# Altium footprint library AltiumLibraries.PcbLib: 84 footprints (part 2 of 6)
Each footprint in its own frame and in the unit in brackets; x right, y up, seen from the top. Pads: shape width x height; smd on the part's side, far side on the other; paste and mask are expansions set on the pad; w line width, h text height; cw(c..) or ccw(c..) is an arc to the next point about the centre after c.
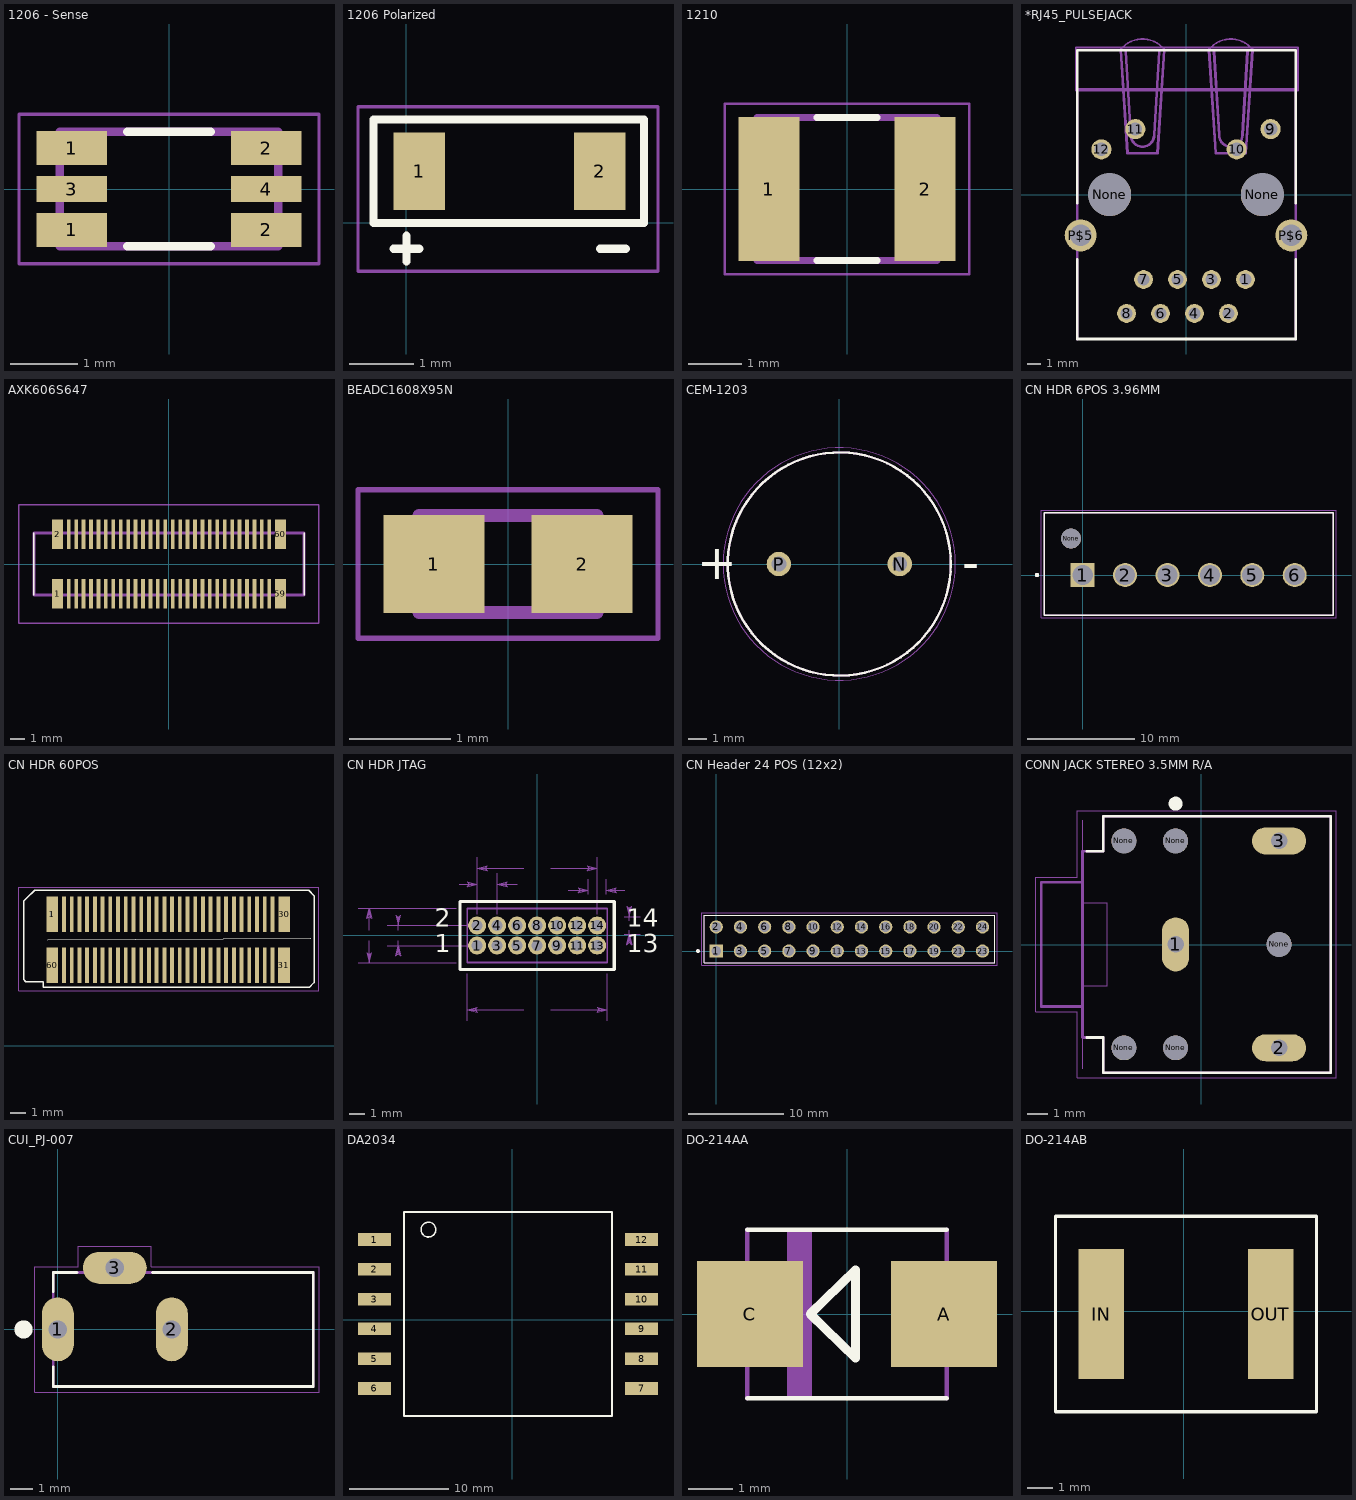
[diagram p1: the footprints below, top view; thin cyan lines are the x and y axes]

## 1206 - Sense [mil] "4-Wire Sense Footprint"
pads (6):
  rect 41.34x20 smd: 1(-57,-24) 1(-57,24) 2(57,-24) 2(57,24)
  rect 41.34x15 smd paste+0: 3(-57,0) 4(57,0)
Top Overlay:
  lines w5: -24.41,-33.46 24.41,-33.46 ; -24.41,33.46 24.41,33.46
Mechanical 4:
  lines w5: -64.17,-33.46 -64.17,33.46 ; -64.17,-33.46 64.17,-33.46 ; -64.17,-33.46 -64.17,33.46 ; -64.17,-33.46 64.17,-33.46 ; -64.17,33.46 64.17,33.46 ; -64.17,33.46 64.17,33.46 ; 64.17,-33.46 64.17,33.46 ; 64.17,-33.46 64.17,33.46
Mechanical 15:
  lines w1.97: -87.99,-43.78 87.99,-43.78 87.99,43.78 -87.99,43.78 -87.99,-43.78

## 1206 Polarized [mm]
pads (2):
  rect 0.8x1.2 smd: 1(0.2,0.8) 2(3,0.8)
Top Overlay:
  lines w0.127: -0.2,-0.4 0.2,-0.4 ; 0,-0.6 0,-0.2 ; 3,-0.4 3.4,-0.4 ; -0.508,0 -0.508,1.6 3.683,1.6 3.683,0 -0.508,0
Mechanical 15:
  lines w0.05: -0.75,-0.75 3.9,-0.75 3.9,1.8 -0.75,1.8 -0.75,1.5 -0.75,-0.75

## 1210 [mm]
pads (2):
  rect 1.16x2.72 smd: 1(-1.475,0) 2(1.475,0)
Top Overlay:
  lines w0.127: -0.57,-1.35 0.57,-1.35 ; -0.57,1.35 0.57,1.35
Mechanical 4:
  lines w0.127: -1.7,-1.35 1.7,-1.35 ; -1.7,-1.35 -1.7,1.35 ; -1.7,-1.35 1.7,-1.35 ; -1.7,-1.35 -1.7,1.35 ; -1.7,1.35 1.7,1.35 ; -1.7,1.35 1.7,1.35 ; 1.7,-1.35 1.7,1.35 ; 1.7,-1.35 1.7,1.35
Mechanical 15:
  lines w0.05: -2.308,-1.608 -2.308,1.608 2.308,1.608 2.308,-1.608 -2.308,-1.608

## *RJ45_PULSEJACK [mm]
pads (16):
  round 1.408 hole 0.9: 1(4.445,-6.35) 2(3.175,-8.89) 3(1.905,-6.35) 4(0.635,-8.89) 5(-0.635,-6.35) 6(-1.905,-8.89) 7(-3.175,-6.35) 8(-4.445,-8.89)
  round 1.508 hole 1: 9(6.325,4.9) 10(3.785,3.38) 11(-3.785,4.9) 12(-6.325,3.38)
  round 3.2 hole 3.2 unplated: None(-5.715,0) None(5.715,0)
  round 2.4 hole 1.6: P$5(-7.875,-3.05) P$6(7.875,-3.05)
Top Overlay:
  lines w0.203: -8.13,-4.83 -8.13,-10.8 8.2,-10.8 8.2,-4.83 ; -8.13,-0.64 -8.13,7.87 -8.13,10.79 8.2,10.79 8.2,7.87 8.2,-0.64
Mechanical 4:
  lines w0.127: -8.13,10.79 -8.13,7.87 -8.13,10.79 ; -8.13,10.79 8.2,10.79 ; -8.13,10.79 8.2,10.79 ; 8.2,10.79 8.2,7.87 8.2,10.79 ; -8.13,-10.8 8.2,-10.8 -8.13,-10.8 ; -4.869,10.846 cw(c-3.253,9.584) -1.637,10.846 ccw(c-3.253,9.584) -4.869,10.846 ; 1.735,10.846 cw(c3.351,9.584) 4.967,10.846 ccw(c3.351,9.584) 1.735,10.846
  lines w0.203: -8.13,7.87 -8.13,-10.8 -8.13,7.87 ; -8.13,7.87 8.2,7.87 ; -8.13,7.87 8.2,7.87 ; -4.378,3.084 -4.878,10.834 -4.378,3.084 ; -4.378,3.084 -2.128,3.084 ; -4.378,3.084 -2.128,3.084 ; -4.128,4.459 ccw(c-3.253,4.459) -2.378,4.459 ; -4.128,4.459 ccw(c-3.253,4.459) -2.378,4.459 ; -4.128,4.459 -4.503,10.709 -4.128,4.459 ; -2.378,4.459 -2.003,10.709 -2.378,4.459 ; -2.128,3.084 -1.628,10.834 -2.128,3.084 ; 2.226,3.084 1.726,10.834 2.226,3.084 ; 2.226,3.084 4.476,3.084 ; 2.226,3.084 4.476,3.084 ; 2.476,4.459 ccw(c3.351,4.459) 4.226,4.459 ; 2.476,4.459 ccw(c3.351,4.459) 4.226,4.459 ; 2.476,4.459 2.101,10.709 2.476,4.459 ; 4.226,4.459 4.601,10.709 4.226,4.459 ; 4.476,3.084 4.976,10.834 4.476,3.084 ; 8.2,7.87 8.2,-10.8 8.2,7.87
  text "NO TRACE ZONE" at -5.842,8.64 h1.88
  text "NO TRACE ZONE" at -5.842,8.64 h1.88
Mechanical 16:
  lines w0.127: -8.246,7.754 8.382,7.754 8.382,11 -8.246,11 -8.246,7.754

## AXK606S647 [mm] "RS14100_WIFI_CONN"
pads (60):
  rect 0.75x2 smd: 1(-7.5,-2) 2(-7.5,2) 59(7.5,-2) 60(7.5,2)
  rect 0.25x2 smd: 3(-6.75,-2) 4(-6.75,2) 5(-6.25,-2) 6(-6.25,2) 7(-5.75,-2) 8(-5.75,2) 9(-5.25,-2) 10(-5.25,2) 11(-4.75,-2) 12(-4.75,2) 13(-4.25,-2) 14(-4.25,2) 15(-3.75,-2) 16(-3.75,2) 17(-3.25,-2) 18(-3.25,2) 19(-2.75,-2) 20(-2.75,2) 21(-2.25,-2) 22(-2.25,2) 23(-1.75,-2) 24(-1.75,2) 25(-1.25,-2) 26(-1.25,2) 27(-0.75,-2) 28(-0.75,2) 29(-0.25,-2) 30(-0.25,2) 31(0.25,-2) 32(0.25,2) 33(0.75,-2) 34(0.75,2) 35(1.25,-2) 36(1.25,2) 37(1.75,-2) 38(1.75,2) 39(2.25,-2) 40(2.25,2) 41(2.75,-2) 42(2.75,2) 43(3.25,-2) 44(3.25,2) 45(3.75,-2) 46(3.75,2) 47(4.25,-2) 48(4.25,2) 49(4.75,-2) 50(4.75,2) 51(5.25,-2) 52(5.25,2) 53(5.75,-2) 54(5.75,2) 55(6.25,-2) 56(6.25,2) 57(6.75,-2) 58(6.75,2)
Top Overlay:
  lines w0.1: -9.1,-2.1 -9.1,2.1 ; 9.1,-2.1 9.1,2.1
Mechanical 13:
  lines w0.2: -9.1,-2.1 -9.1,2.1 9.1,2.1 9.1,-2.1 -9.1,-2.1
Mechanical 15:
  lines w0.1: -10.1,-4 -10.1,4 10.1,4 10.1,-4 -10.1,-4
3D body "AXK6S60647YG.stp": height 5.6, standoff 0, extent -9.1,-2.975 9.1,2.975

## BEADC1608X95N [mm]
pads (2):
  rect 1x0.97 smd: 1(-0.735,0) 2(0.735,0)
Mechanical 13:
  lines w0.127: -0.88,-0.48 0.88,-0.48 0.88,0.48 -0.88,0.48 -0.88,-0.48
Mechanical 15:
  lines w0.05: -1.485,-0.735 1.485,-0.735 1.485,0.735 -1.485,0.735 -1.485,-0.735

## CEM-1203 [mm] "2048 Hz Speaker"
pads (2):
  round 1.308 hole 0.8: N(3.25,0) P(-3.25,0)
Top Overlay:
  circle w0.127: c0,0 r6
  text "+" at -7.655,-0.821 h1.88
  text "-" at 6.608,-0.821 h1.88
Mechanical 13:
  circle w0.127: c0,0 r6
  circle w0.127: c0,0 r6
Mechanical 16:
  circle w0.05: c0,0 r6.25
3D body: height 0.25, standoff 0, extent 0,0 0,0
3D body "CEM-1203_42_WR.stp": height 9.1, standoff -5, extent -6.25,-6.251 6.25,6.249

## CN HDR 6POS 3.96MM [mm]
pads (7):
  rect 2.24x2.24 hole 1.89: 1(0,0)
  round 2.24 hole 1.89: 2(3.96,0) 3(7.92,0) 4(11.88,0) 5(15.84,0) 6(19.8,0)
  round 1.86 hole 1.86 unplated: None(-1.08,3.4)
Top Overlay:
  circle w0.2: c-4.255,0 r0.1
  lines w0.127: -3.605,-3.76 -3.605,5.82 23.405,5.82 23.405,-3.76 -3.605,-3.76
Mechanical 4:
  circle w0.2: c-4.255,0 r0.1
  circle w0.2: c-4.255,0 r0.1
  lines w0.127: -3.605,-3.76 -3.605,5.82 ; -3.605,-3.76 23.405,-3.76 ; -3.605,-3.76 -3.605,5.82 ; -3.605,-3.76 -3.605,5.82 ; -3.605,-3.76 23.405,-3.76 ; -3.605,-3.76 -3.605,5.82 ; -3.605,5.82 23.405,5.82 ; -3.605,5.82 23.405,5.82 ; -3.605,5.82 23.405,5.82 ; -3.605,5.82 23.405,5.82 ; 23.405,-3.76 23.405,5.82 ; 23.405,-3.76 23.405,5.82 ; 23.405,-3.76 23.405,5.82 ; 23.405,-3.76 23.405,5.82
Mechanical 15:
  lines w0.05: -3.855,-4.01 -3.855,6.07 23.655,6.07 23.655,-4.01 -3.855,-4.01

## CN HDR 60POS [mm] "60 Position Connector Header, Outer Shroud Contacts Surface Mount Gold"
pads (60):
  rect 0.75x2.3 smd: 1(-548,8.51) 30(-532.98,8.51) 31(-533,5.21) 60(-548,5.21)
  rect 0.25x2.3 smd: 2(-547.25,8.51) 3(-546.75,8.51) 4(-546.25,8.51) 5(-545.75,8.51) 6(-545.25,8.51) 7(-544.75,8.51) 8(-544.25,8.51) 9(-543.75,8.51) 10(-543.25,8.51) 11(-542.75,8.51) 12(-542.25,8.51) 13(-541.75,8.51) 14(-541.25,8.51) 15(-540.75,8.51) 16(-540.25,8.51) 17(-539.75,8.51) 18(-539.25,8.51) 19(-538.75,8.51) 20(-538.25,8.51) 21(-537.75,8.51) 22(-537.25,8.51) 23(-536.75,8.51) 24(-536.25,8.51) 25(-535.75,8.51) 26(-535.25,8.51) 27(-534.75,8.51) 28(-534.25,8.51) 29(-533.75,8.51) 32(-533.75,5.21) 33(-534.25,5.21) 34(-534.75,5.21) 35(-535.25,5.21) 36(-535.75,5.21) 37(-536.25,5.21) 38(-536.75,5.21) 39(-537.25,5.21) 40(-537.75,5.21) 41(-538.25,5.21) 42(-538.75,5.21) 43(-539.25,5.21) 44(-539.75,5.21) 45(-540.25,5.21) 46(-540.75,5.21) 47(-541.25,5.21) 48(-541.75,5.21) 49(-542.25,5.21) 50(-542.75,5.21) 51(-543.25,5.21) 52(-543.75,5.21) 53(-544.25,5.21) 54(-544.75,5.21) 55(-545.25,5.21) 56(-545.75,5.21) 57(-546.25,5.21) 58(-546.75,5.21) 59(-547.25,5.21)
Top Overlay:
  lines w0.05: -548.31,6.86 -531.28,6.97
  lines w0.1: -549.87,4.31 -549.87,9.36 -549.67,9.56 -549.15,10.08 -548.26,10.08 -532.12,10.08 -531.4,10.08 -531.05,9.73 -531.05,9.67 -531.05,4.1 -531.35,3.8 -532.25,3.8 -548.59,3.8 -548.59,4.16 -549.72,4.16 -549.87,4.31
Mechanical 15:
  lines w0.051: -550.164,3.556 -530.733,3.556 -530.733,10.287 -550.164,10.287 -550.164,9.271 -550.164,3.556
3D body: height 0.25, standoff 0, extent -549.58,4.525 -531.44,9.415

## CN HDR JTAG [mil] "CONN HEADER VERT 14POS 1.27MM"
pads (14):
  round 45 hole 27.95: 1(-150,-25.39) 2(-150,24.61) 3(-100,-25.39) 4(-100,24.61) 5(-50,-25.39) 6(-50,24.61) 7(0,-25.39) 8(0,24.61) 9(50,-25.39) 10(50,24.61) 11(100,-25.39) 12(100,24.61) 13(150,-25.39) 14(150,24.61)
Top Overlay:
  lines w7.87: -192.72,-85.63 -192.72,84.85 192.72,84.85 192.72,-85.63 -192.72,-85.63
  text "1" at -256.02,-57.4 h77.5
  text "2" at -256.02,6.62 h77.5
  text "13" at 224.53,-57.4 h77.5
  text "14" at 224.53,6.62 h77.5
Top Solder:
  circle w0: c-150,-25.39 r24.51
  circle w0: c-150,24.61 r24.51
  circle w0: c-100,-25.39 r24.51
  circle w0: c-100,24.61 r24.51
  circle w0: c-50,-25.39 r24.51
  circle w0: c-50,24.61 r24.51
  circle w0: c0,-25.39 r24.51
  circle w0: c0,24.61 r24.51
  circle w0: c50,-25.39 r24.51
  circle w0: c50,24.61 r24.51
  circle w0: c100,-25.39 r24.51
  circle w0: c100,24.61 r24.51
  circle w0: c150,-25.39 r24.51
  circle w0: c150,24.61 r24.51
Bottom Solder:
  circle w0: c-150,-25.39 r24.51
  circle w0: c-150,24.61 r24.51
  circle w0: c-100,-25.39 r24.51
  circle w0: c-100,24.61 r24.51
  circle w0: c-50,-25.39 r24.51
  circle w0: c-50,24.61 r24.51
  circle w0: c0,-25.39 r24.51
  circle w0: c0,24.61 r24.51
  circle w0: c50,-25.39 r24.51
  circle w0: c50,24.61 r24.51
  circle w0: c100,-25.39 r24.51
  circle w0: c100,24.61 r24.51
  circle w0: c150,-25.39 r24.51
  circle w0: c150,24.61 r24.51
Mechanical 15:
  lines w3.94: -175,-67.87 -125,-67.87 ; -175,-67.87 -125,-67.87 ; -175,-67.87 -175,67.09 -125,67.09 -75,67.09 -25,67.09 25,67.09 75,67.09 125,67.09 175,67.09 175,-67.87 125,-67.87 ; -125,-67.87 -75,-67.87 ; -125,-67.87 -75,-67.87 ; -75,-67.87 -25,-67.87 ; -75,-67.87 -25,-67.87 ; -25,-67.87 25,-67.87 ; -25,-67.87 25,-67.87 ; 25,-67.87 75,-67.87 ; 25,-67.87 75,-67.87 ; 75,-67.87 125,-67.87 ; 75,-67.87 125,-67.87
Mechanical 16:
  lines w3.94: -175,67.09 -125,67.09 -75,67.09 -25,67.09 25,67.09 75,67.09 125,67.09 ; -157.99,-33.38 -157.99,-17.4 ; -157.99,-33.38 -142.01,-33.38 ; -157.99,-33.38 -142.01,-33.38 ; -157.99,-33.38 -157.99,-17.4 ; -157.99,-17.4 -142.01,-17.4 ; -157.99,-17.4 -142.01,-17.4 ; -157.99,16.62 -157.99,32.6 ; -157.99,16.62 -142.01,16.62 ; -157.99,16.62 -142.01,16.62 ; -157.99,16.62 -157.99,32.6 ; -157.99,32.6 -142.01,32.6 ; -157.99,32.6 -142.01,32.6 ; -142.01,-33.38 -142.01,-17.4 ; -142.01,-33.38 -142.01,-17.4 ; -142.01,16.62 -142.01,32.6 ; -142.01,16.62 -142.01,32.6 ; -107.99,-33.38 -107.99,-17.4 ; -107.99,-33.38 -92.01,-33.38 ; -107.99,-33.38 -92.01,-33.38 ; -107.99,-33.38 -107.99,-17.4 ; -107.99,-17.4 -92.01,-17.4 ; -107.99,-17.4 -92.01,-17.4 ; -107.99,16.62 -107.99,32.6 ; -107.99,16.62 -92.01,16.62 ; -107.99,16.62 -92.01,16.62 ; -107.99,16.62 -107.99,32.6 ; -107.99,32.6 -92.01,32.6 ; -107.99,32.6 -92.01,32.6 ; -92.01,-33.38 -92.01,-17.4 ; -92.01,-33.38 -92.01,-17.4 ; -92.01,16.62 -92.01,32.6 ; -92.01,16.62 -92.01,32.6 ; -57.99,-33.38 -57.99,-17.4 ; -57.99,-33.38 -42.01,-33.38 ; -57.99,-33.38 -42.01,-33.38 ; -57.99,-33.38 -57.99,-17.4 ; -57.99,-17.4 -42.01,-17.4 ; -57.99,-17.4 -42.01,-17.4 ; -57.99,16.62 -57.99,32.6 ; -57.99,16.62 -42.01,16.62 ; -57.99,16.62 -42.01,16.62 ; -57.99,16.62 -57.99,32.6 ; -57.99,32.6 -42.01,32.6 ; -57.99,32.6 -42.01,32.6 ; -42.01,-33.38 -42.01,-17.4 ; -42.01,-33.38 -42.01,-17.4 ; -42.01,16.62 -42.01,32.6 ; -42.01,16.62 -42.01,32.6 ; -7.99,-33.38 -7.99,-17.4 ; -7.99,-33.38 7.99,-33.38 ; -7.99,-33.38 7.99,-33.38 ; -7.99,-33.38 -7.99,-17.4 ; -7.99,-17.4 7.99,-17.4 ; -7.99,-17.4 7.99,-17.4 ; -7.99,16.62 -7.99,32.6 ; -7.99,16.62 7.99,16.62 ; -7.99,16.62 7.99,16.62 ; -7.99,16.62 -7.99,32.6 ; -7.99,32.6 7.99,32.6 ; -7.99,32.6 7.99,32.6 ; 7.99,-33.38 7.99,-17.4 ; 7.99,-33.38 7.99,-17.4 ; 7.99,16.62 7.99,32.6 ; 7.99,16.62 7.99,32.6 ; 42.01,-33.38 42.01,-17.4 ; 42.01,-33.38 57.99,-33.38 ; 42.01,-33.38 57.99,-33.38 ; 42.01,-33.38 42.01,-17.4 ; 42.01,-17.4 57.99,-17.4 ; 42.01,-17.4 57.99,-17.4 ; 42.01,16.62 42.01,32.6 ; 42.01,16.62 57.99,16.62 ; 42.01,16.62 57.99,16.62 ; 42.01,16.62 42.01,32.6 ; 42.01,32.6 57.99,32.6 ; 42.01,32.6 57.99,32.6 ; 57.99,-33.38 57.99,-17.4 ; 57.99,-33.38 57.99,-17.4 ; 57.99,16.62 57.99,32.6 ; 57.99,16.62 57.99,32.6 ; 92.01,-33.38 92.01,-17.4 ; 92.01,-33.38 107.99,-33.38 ; 92.01,-33.38 107.99,-33.38 ; 92.01,-33.38 92.01,-17.4 ; 92.01,-17.4 107.99,-17.4 ; 92.01,-17.4 107.99,-17.4 ; 92.01,16.62 92.01,32.6 ; 92.01,16.62 107.99,16.62 ; 92.01,16.62 107.99,16.62 ; 92.01,16.62 92.01,32.6 ; 92.01,32.6 107.99,32.6 ; 92.01,32.6 107.99,32.6 ; 107.99,-33.38 107.99,-17.4 ; 107.99,-33.38 107.99,-17.4 ; 107.99,16.62 107.99,32.6 ; 107.99,16.62 107.99,32.6 ; 142.01,-33.38 157.99,-33.38 157.99,-17.4 142.01,-17.4 142.01,-33.38 ; 142.01,16.62 157.99,16.62 157.99,32.6 142.01,32.6 142.01,16.62
  text "1" at -256.02,-57.4 h77.5
  text "2" at -256.02,6.62 h77.5
  text "13" at 224.53,-57.4 h77.5
  text "14" at 224.53,6.62 h77.5
Mechanical 40:
  drawing of 154 lines, arcs and shapes, not listed
  text "1.270" at -373.5,-5.39 h15.5
  text "3.429" at -445.98,-5.39 h15.5
  text "1.270" at -253.5,122.13 h15.5
  text "8.890" at -25.98,-190.39 h15.5
  text "7.620" at -25.98,162.13 h15.5
  text "1.143" at 204.02,19.61 h15.5
  text "1.143" at 226.5,107.09 h15.5
3D body "FTSH-107-04-L-D.stp": height 249, standoff -90, extent -174.99,-67.89 175,67.11

## CN Header 24 POS (12x2) [mm] "24 position, dual row, standard 0.1\" (2.54mm) spacing."
pads (24):
  rect 1.39x1.39 hole 1.04: 1(0,0)
  round 1.39 hole 1.04: 2(0,2.54) 3(2.54,0) 4(2.54,2.54) 5(5.08,0) 6(5.08,2.54) 7(7.62,0) 8(7.62,2.54) 9(10.16,0) 10(10.16,2.54) 11(12.7,0) 12(12.7,2.54) 13(15.24,0) 14(15.24,2.54) 15(17.78,0) 16(17.78,2.54) 17(20.32,0) 18(20.32,2.54) 19(22.86,0) 20(22.86,2.54) 21(25.4,0) 22(25.4,2.54) 23(27.94,0) 24(27.94,2.54)
Top Overlay:
  circle w0.2: c-1.92,0 r0.1
  lines w0.127: -1.27,-1.23 -1.27,3.77 29.21,3.77 29.21,-1.23 -1.27,-1.23
Mechanical 13:
  circle w0.2: c-1.92,0 r0.1
  lines w0.127: -1.27,-1.23 -1.27,3.77 ; -1.27,-1.23 29.21,-1.23 ; -1.27,-1.23 -1.27,3.77 ; -1.27,3.77 29.21,3.77 ; -1.27,3.77 29.21,3.77 ; 29.21,-1.23 29.21,3.77 ; 29.21,-1.23 29.21,3.77
Mechanical 15:
  lines w0.05: -1.52,-1.48 -1.52,4.02 29.46,4.02 29.46,-1.48 -1.52,-1.48

## CONN JACK STEREO 3.5MM R/A [mm]
pads (8):
  oval 1.308x2.616 hole 0.8: 1(-1.243,0.027)
  oval 2.616x1.308 hole 0.8: 2(3.757,-4.973) 3(3.757,5.027)
  round 1.2 hole 1.2 unplated: None(-3.743,-4.973) None(-3.743,5.027) None(-1.243,-4.973) None(-1.243,5.027) None(3.757,0.027)
Top Overlay:
  circle w0.34: c-1.243,6.827 r0.17
  lines w0.127: -5.543,-4.473 -4.743,-4.473 -4.743,-6.173 6.257,-6.173 6.257,6.227 -4.743,6.227 -4.743,4.527 -5.543,4.527
Mechanical 1:
  lines w0: -5.743,-5.973 -5.743,-1.973 -4.543,-1.973 -4.543,2.027 -5.743,2.027 -5.743,6.027 ; -1.643,-0.723 -0.843,-0.723 -0.843,0.777 -1.643,0.777 -1.643,-0.723 ; 3.007,-5.373 3.007,-4.573 4.507,-4.573 4.507,-5.373 3.007,-5.373 ; 3.007,4.627 3.007,5.427 4.507,5.427 4.507,4.627 3.007,4.627
Mechanical 4:
  lines w0.127: -7.743,-2.973 -7.743,3.027 ; -7.743,-2.973 -5.743,-2.973 ; -7.743,-2.973 -7.743,3.027 ; -7.743,-2.973 -5.743,-2.973 ; -7.743,3.027 -5.743,3.027 ; -7.743,3.027 -5.743,3.027 ; -5.743,-4.473 -5.743,-2.973 ; -5.743,-4.473 -4.743,-4.473 ; -5.743,-4.473 -5.743,-2.973 ; -5.743,-4.473 -4.743,-4.473 ; -5.743,-2.973 -5.743,3.027 ; -5.743,-2.973 -5.743,3.027 ; -5.743,3.027 -5.743,4.527 ; -5.743,3.027 -5.743,4.527 ; -5.743,4.527 -4.743,4.527 ; -5.743,4.527 -4.743,4.527 ; -4.743,-6.173 6.257,-6.173 ; -4.743,-6.173 -4.743,-4.473 ; -4.743,-6.173 6.257,-6.173 ; -4.743,-6.173 -4.743,-4.473 ; -4.743,4.527 -4.743,6.227 ; -4.743,4.527 -4.743,6.227 ; -4.743,6.227 6.257,6.227 ; -4.743,6.227 6.257,6.227 ; 6.257,-6.173 6.257,6.227 ; 6.257,-6.173 6.257,6.227
Mechanical 15:
  lines w0.05: -7.993,-3.223 -5.993,-3.223 -5.993,-6.423 6.507,-6.423 6.507,6.477 -5.993,6.477 -5.993,3.277 -7.993,3.277 -7.993,-3.223

## CUI_PJ-007 [mm]
pads (3):
  oval 1.4x2.8 hole 0.8: 1(0,0) 2(5,0)
  oval 2.8x1.4 hole 0.8: 3(2.5,2.7)
Top Overlay:
  circle w0.4: c-1.5,0 r0.2
  lines w0.127: -0.2,-1.65 -0.2,-2.5 11.2,-2.5 11.2,2.5 4.15,2.5 ; -0.2,1.65 -0.2,2.5 0.85,2.5
Mechanical 1:
  lines w0: -0.4,-0.75 0.4,-0.75 0.4,0.75 -0.4,0.75 -0.4,-0.75 ; 1.75,2.3 3.25,2.3 3.25,3.1 1.75,3.1 1.75,2.3 ; 4.6,-0.75 5.4,-0.75 5.4,0.75 4.6,0.75 4.6,-0.75
Mechanical 4:
  lines w0.127: -0.2,-2.5 11.2,-2.5 ; -0.2,-2.5 -0.2,2.5 ; -0.2,-2.5 11.2,-2.5 ; -0.2,-2.5 -0.2,2.5 ; -0.2,2.5 11.2,2.5 ; -0.2,2.5 11.2,2.5 ; 11.2,-2.5 11.2,2.5 ; 11.2,-2.5 11.2,2.5
Mechanical 15:
  lines w0.05: -1,-2.75 -1,2.75 0.9,2.75 0.9,3.65 4.1,3.65 4.1,2.75 11.45,2.75 11.45,-2.75 -1,-2.75

## DA2034 [mm]
pads (12):
  rect 3.3x1.27 smd: 1(-13.892,8.059) 2(-13.892,5.059) 3(-13.892,2.059) 4(-13.892,-0.941) 5(-13.892,-3.941) 6(-13.892,-6.941) 7(13.028,-6.941) 8(13.028,-3.941) 9(13.028,-0.941) 10(13.028,2.059) 11(13.028,5.059) 12(13.028,8.059)
Top Overlay:
  circle w0.16: c-8.442,9.059 r0.746
  lines w0.2: -10.932,-9.731 10.068,-9.731 10.068,10.849 -10.932,10.849 -10.932,-9.731
3D body "DA2034-ALB.stp": height 11.43, standoff 0, extent -15.406,-9.675 14.594,10.895

## DO-214AA [mm]
pads (2):
  rect 2.4x2.4 smd: A(2.2,0) C(-2.2,0)
Top Overlay:
  lines w0.102: -2.261,-1.905 2.261,-1.905 ; -2.261,1.905 2.261,1.905
  lines w0.203: -0.83,0 0.193,1 0.193,-1 -0.83,0
Mechanical 13:
  region: -2.261,-1.094 -2.798,-1.094 -2.798,1.092 -2.261,1.092
  region: 2.794,-1.094 2.265,-1.094 2.265,1.092 2.794,1.092
  region: -0.8,-1.902 -1.352,-1.902 -1.352,1.9 -0.8,1.9
  lines w0.102: -2.261,-1.905 -2.261,1.905 ; 2.261,-1.905 2.261,1.905

## DO-214AB [mil]
pads (2):
  rect 70x200 smd: IN(-126.89,-4.41) OUT(133.11,-4.41)
Top Overlay:
  lines w5: -196.89,-154.41 203.11,-154.41 203.11,145.59 -196.89,145.59 -196.89,-154.41